# Altium schematic symbol library IC_ZXLD1350.SchLib: 1 symbol
Pins are listed as number, name and electrical type; pins without a type are passive.

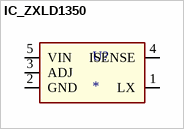
[diagram p0: symbol IC_ZXLD1350]

## IC_ZXLD1350
designator U?
pins: 1 LX, 2 GND, 3 ADJ, 4 ISENSE, 5 VIN